# Altium footprint library KF2510-LI.PcbLib: 14 footprints
Each footprint in its own frame and in the unit in brackets; x right, y up, seen from the top. Pads: shape width x height; smd on the part's side, far side on the other; paste and mask are expansions set on the pad; w line width, h text height; cw(c..) or ccw(c..) is an arc to the next point about the centre after c.
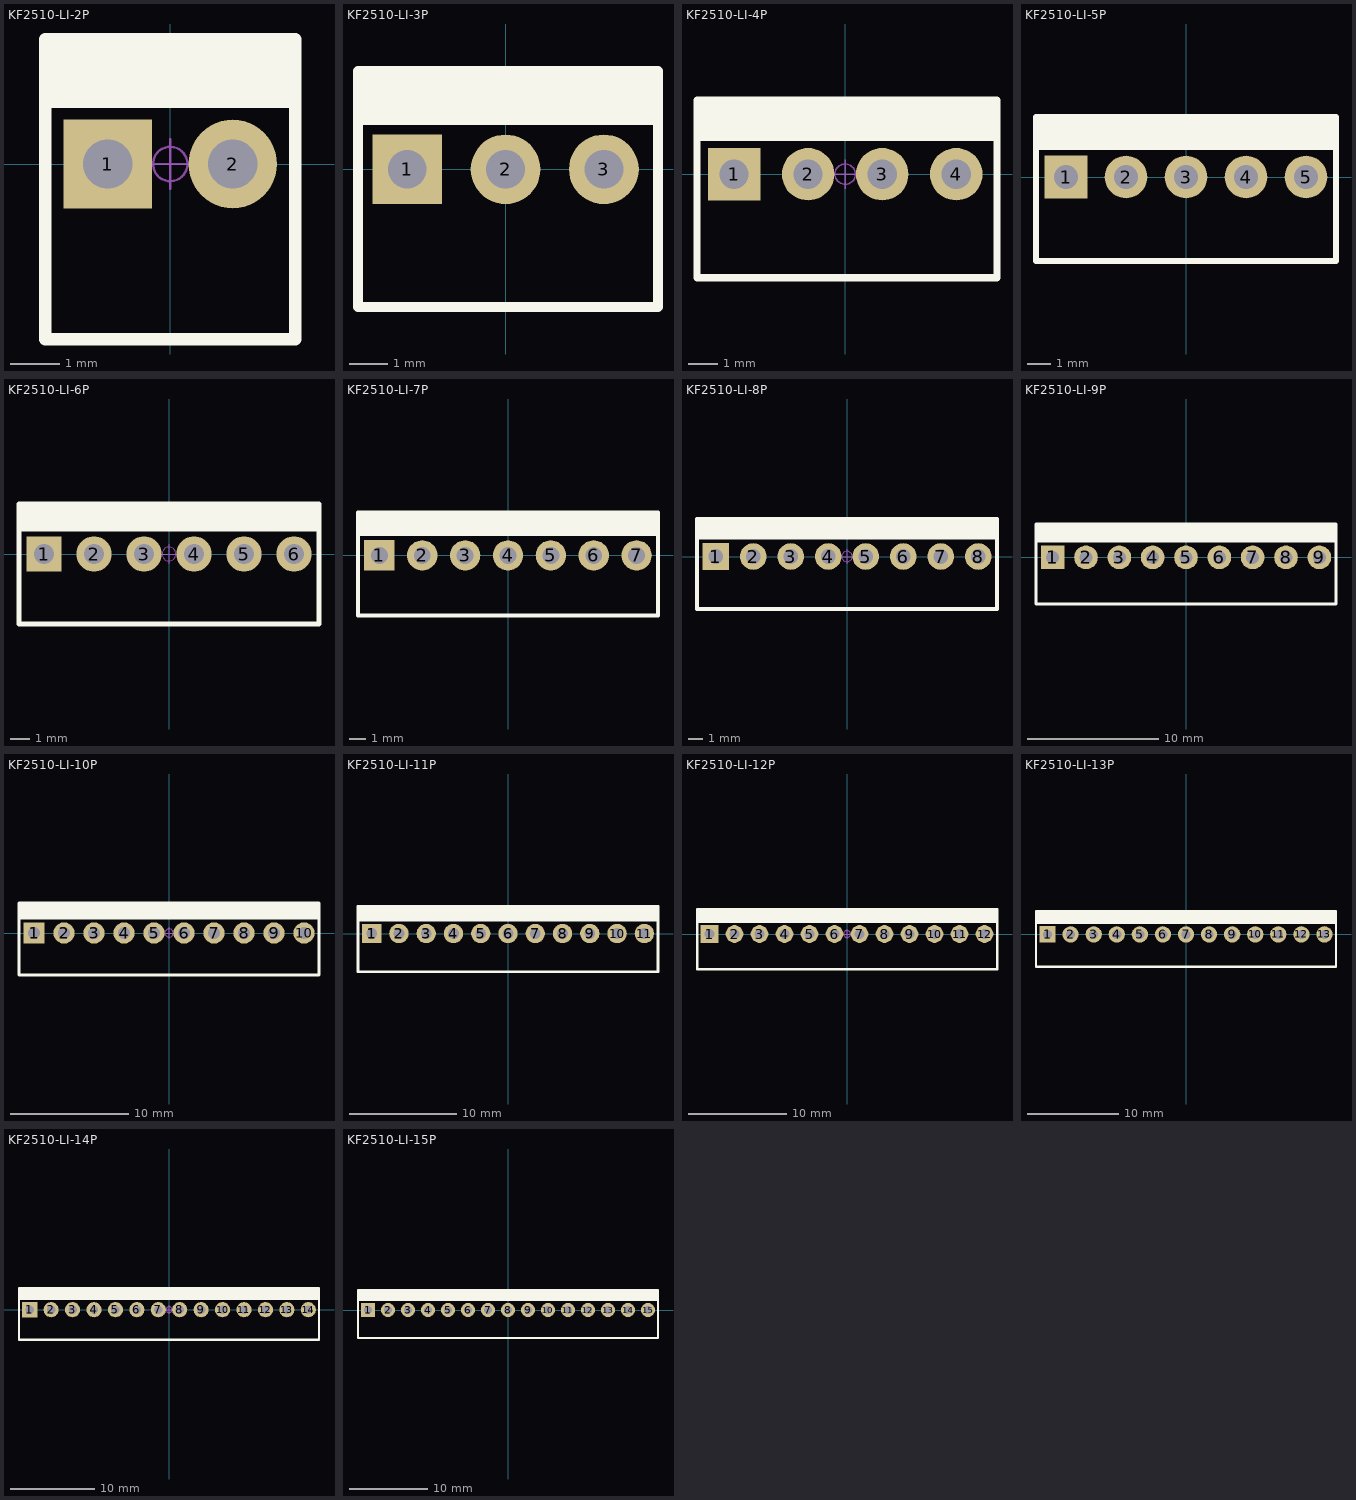
[diagram p0: the footprints below, top view; thin cyan lines are the x and y axes]

## KF2510-LI-2P [mm] "接插件/2A"
height 11
pads (2):
  rect 1.8x1.8 hole 1: 1(-1.27,0)
  round 1.8 hole 1: 2(1.27,0)
Top Overlay:
  rectangle: -2.591,1.27 2.489,2.54
  lines w0.254: -2.54,1.27 2.489,1.27 ; -2.54,-3.556 2.54,-3.556 2.54,2.54 -2.54,2.54 -2.54,-3.556
Mechanical 15:
  circle w0.05: c0,0 r0.35
  lines w0.05: -0.5,0 0.5,0 ; 0,-0.5 0,0.5
3D body "KF2510左.STEP": height 11.05, standoff -2.95, extent -2.54,-3.5 0,2.4
3D body "KF2510右.STEP": height 11.05, standoff -2.95, extent 0,-3.5 2.54,2.4

## KF2510-LI-3P [mm] "接插件/2A"
pads (3):
  rect 1.8x1.8 hole 1: 1(-2.54,0)
  round 1.8 hole 1: 2(0,0) 3(2.54,0)
Top Overlay:
  rectangle: -3.81,1.27 3.937,2.54
  lines w0.254: -3.81,1.27 3.937,1.27 ; -3.81,-3.556 3.937,-3.556 3.937,2.54 -3.81,2.54 -3.81,-3.556
Mechanical 15:
  circle w0.05: c0,0 r0.35
  lines w0.05: -0.5,0 0.5,0 ; 0,-0.5 0,0.5
3D body "KF2510右.STEP": height 11.05, standoff -2.95, extent 1.27,-3.5 3.81,2.4
3D body "KF2510左.STEP": height 11.05, standoff -2.95, extent -3.81,-3.5 -1.27,2.4
3D body "KF2510中.STEP": height 11.05, standoff -2.95, extent -1.27,-3.5 1.27,2.4

## KF2510-LI-4P [mm] "接插件/2A"
pads (4):
  rect 1.8x1.8 hole 1: 1(-3.81,0)
  round 1.8 hole 1: 2(-1.27,0) 3(1.27,0) 4(3.81,0)
Top Overlay:
  rectangle: -5.08,1.27 5.207,2.54
  lines w0.254: -5.08,1.27 5.207,1.27 ; -5.08,-3.556 -5.08,2.54 5.207,2.54 5.207,-3.556 -5.08,-3.556
Mechanical 15:
  circle w0.05: c0,0 r0.35
  lines w0.05: -0.5,0 0.5,0 ; 0,-0.5 0,0.5
3D body "KF2510中.STEP": height 11.05, standoff -2.95, extent -2.54,-3.5 0,2.4
3D body "KF2510中.STEP": height 11.05, standoff -2.95, extent 0,-3.5 2.54,2.4
3D body "KF2510左.STEP": height 11.05, standoff -2.95, extent -5.08,-3.5 -2.54,2.4
3D body "KF2510右.STEP": height 11.05, standoff -2.95, extent 2.54,-3.5 5.08,2.4

## KF2510-LI-5P [mm] "接插件/2A"
pads (5):
  rect 1.8x1.8 hole 1: 1(-5.08,0)
  round 1.8 hole 1: 2(-2.54,0) 3(0,0) 4(2.54,0) 5(5.08,0)
Top Overlay:
  rectangle: -6.35,1.27 6.35,2.538
  lines w0.254: -6.35,1.27 6.35,1.27 ; -6.35,-3.556 6.35,-3.556 6.35,2.54 -6.35,2.54 -6.35,-3.556
Mechanical 15:
  circle w0.05: c0,0 r0.35
  lines w0.05: -0.5,0 0.5,0 ; 0,-0.5 0,0.5
3D body "KF2510中.STEP": height 11.05, standoff -2.95, extent -3.81,-3.5 -1.27,2.4
3D body "KF2510中.STEP": height 11.05, standoff -2.95, extent -1.27,-3.5 1.27,2.4
3D body "KF2510中.STEP": height 11.05, standoff -2.95, extent 1.27,-3.5 3.81,2.4
3D body "KF2510左.STEP": height 11.05, standoff -2.95, extent -6.35,-3.5 -3.81,2.4
3D body "KF2510右.STEP": height 11.05, standoff -2.95, extent 3.81,-3.5 6.35,2.4

## KF2510-LI-6P [mm] "接插件/2A"
pads (6):
  rect 1.8x1.8 hole 1: 1(-6.35,0)
  round 1.8 hole 1: 2(-3.81,0) 3(-1.27,0) 4(1.27,0) 5(3.81,0) 6(6.35,0)
Top Overlay:
  rectangle: -7.62,1.27 7.62,2.54
  lines w0.254: -7.62,1.27 7.62,1.27 ; -7.62,-3.556 -7.62,2.54 7.62,2.54 7.62,-3.556 -7.62,-3.556
Mechanical 15:
  circle w0.05: c0,0 r0.35
  lines w0.05: -0.5,0 0.5,0 ; 0,-0.5 0,0.5
3D body "KF2510右.STEP": height 11.05, standoff -2.95, extent 5.08,-3.5 7.62,2.4
3D body "KF2510左.STEP": height 11.05, standoff -2.95, extent -7.62,-3.5 -5.08,2.4
3D body "KF2510中.STEP": height 11.05, standoff -2.95, extent 2.54,-3.5 5.08,2.4
3D body "KF2510中.STEP": height 11.05, standoff -2.95, extent 0,-3.5 2.54,2.4
3D body "KF2510中.STEP": height 11.05, standoff -2.95, extent -2.54,-3.5 0,2.4
3D body "KF2510中.STEP": height 11.05, standoff -2.95, extent -5.08,-3.5 -2.54,2.4

## KF2510-LI-7P [mm] "接插件/2A"
pads (7):
  rect 1.8x1.8 hole 1: 1(-7.62,0)
  round 1.8 hole 1: 2(-5.08,0) 3(-2.54,0) 4(0,0) 5(2.54,0) 6(5.08,0) 7(7.62,0)
Top Overlay:
  rectangle: -8.89,1.27 8.89,2.54
  lines w0.254: -8.89,1.27 8.89,1.27 ; -8.89,-3.556 -8.89,2.54 8.89,2.54 8.89,-3.556 -8.89,-3.556
Mechanical 15:
  circle w0.05: c0,0 r0.35
  lines w0.05: -0.5,0 0.5,0 ; 0,-0.5 0,0.5
3D body "KF2510中.STEP": height 11.05, standoff -2.95, extent -6.35,-3.5 -3.81,2.4
3D body "KF2510中.STEP": height 11.05, standoff -2.95, extent -3.81,-3.5 -1.27,2.4
3D body "KF2510中.STEP": height 11.05, standoff -2.95, extent -1.27,-3.5 1.27,2.4
3D body "KF2510中.STEP": height 11.05, standoff -2.95, extent 1.27,-3.5 3.81,2.4
3D body "KF2510中.STEP": height 11.05, standoff -2.95, extent 3.81,-3.5 6.35,2.4
3D body "KF2510左.STEP": height 11.05, standoff -2.95, extent -8.89,-3.5 -6.35,2.4
3D body "KF2510右.STEP": height 11.05, standoff -2.95, extent 6.35,-3.5 8.89,2.4

## KF2510-LI-8P [mm] "接插件/2A"
pads (8):
  rect 1.8x1.8 hole 1: 1(-8.89,0)
  round 1.8 hole 1: 2(-6.35,0) 3(-3.81,0) 4(-1.27,0) 5(1.27,0) 6(3.81,0) 7(6.35,0) 8(8.89,0)
Top Overlay:
  rectangle: -10.16,1.27 10.16,2.54
  lines w0.254: -10.16,1.27 10.16,1.27 ; -10.16,-3.556 -10.16,2.54 10.16,2.54 10.16,-3.556 -10.16,-3.556
Mechanical 15:
  circle w0.05: c0,0 r0.35
  lines w0.05: -0.5,0 0.5,0 ; 0,-0.5 0,0.5
3D body "KF2510左.STEP": height 11.05, standoff -2.95, extent -10.16,-3.5 -7.62,2.4
3D body "KF2510右.STEP": height 11.05, standoff -2.95, extent 7.62,-3.5 10.16,2.4
3D body "KF2510中.STEP": height 11.05, standoff -2.95, extent -7.62,-3.5 -5.08,2.4
3D body "KF2510中.STEP": height 11.05, standoff -2.95, extent -5.08,-3.5 -2.54,2.4
3D body "KF2510中.STEP": height 11.05, standoff -2.95, extent -2.54,-3.5 0,2.4
3D body "KF2510中.STEP": height 11.05, standoff -2.95, extent 0,-3.5 2.54,2.4
3D body "KF2510中.STEP": height 11.05, standoff -2.95, extent 2.54,-3.5 5.08,2.4
3D body "KF2510中.STEP": height 11.05, standoff -2.95, extent 5.08,-3.5 7.62,2.4

## KF2510-LI-9P [mm] "接插件/2A"
pads (9):
  rect 1.8x1.8 hole 1: 1(-10.16,0)
  round 1.8 hole 1: 2(-7.62,0) 3(-5.08,0) 4(-2.54,0) 5(0,0) 6(2.54,0) 7(5.08,0) 8(7.62,0) 9(10.16,0)
Top Overlay:
  rectangle: -11.43,1.27 11.43,2.54
  lines w0.254: -11.43,1.27 11.43,1.27 ; -11.43,-3.556 11.43,-3.556 11.43,2.54 -11.43,2.54 -11.43,-3.556
Mechanical 15:
  circle w0.05: c0,0 r0.35
  lines w0.05: -0.5,0 0.5,0 ; 0,-0.5 0,0.5
3D body "KF2510中.STEP": height 11.05, standoff -2.95, extent 6.35,-3.5 8.89,2.4
3D body "KF2510中.STEP": height 11.05, standoff -2.95, extent 3.81,-3.5 6.35,2.4
3D body "KF2510中.STEP": height 11.05, standoff -2.95, extent 1.27,-3.5 3.81,2.4
3D body "KF2510中.STEP": height 11.05, standoff -2.95, extent -1.27,-3.5 1.27,2.4
3D body "KF2510中.STEP": height 11.05, standoff -2.95, extent -3.81,-3.5 -1.27,2.4
3D body "KF2510中.STEP": height 11.05, standoff -2.95, extent -6.35,-3.5 -3.81,2.4
3D body "KF2510中.STEP": height 11.05, standoff -2.95, extent -8.89,-3.5 -6.35,2.4
3D body "KF2510右.STEP": height 11.05, standoff -2.95, extent 8.89,-3.5 11.43,2.4
3D body "KF2510左.STEP": height 11.05, standoff -2.95, extent -11.43,-3.5 -8.89,2.4

## KF2510-LI-10P [mm] "接插件/2A"
pads (10):
  rect 1.8x1.8 hole 1: 1(-11.43,0)
  round 1.8 hole 1: 2(-8.89,0) 3(-6.35,0) 4(-3.81,0) 5(-1.27,0) 6(1.27,0) 7(3.81,0) 8(6.35,0) 9(8.89,0) 10(11.43,0)
Top Overlay:
  rectangle: -12.7,1.27 12.7,2.54
  lines w0.254: -12.7,1.27 12.7,1.27 ; -12.7,-3.556 -12.7,2.54 12.7,2.54 12.7,-3.556 -12.7,-3.556
Mechanical 15:
  circle w0.05: c0,0 r0.35
  lines w0.05: -0.5,0 0.5,0 ; 0,-0.5 0,0.5
3D body "KF2510左.STEP": height 11.05, standoff -2.95, extent -12.7,-3.5 -10.16,2.4
3D body "KF2510右.STEP": height 11.05, standoff -2.95, extent 10.16,-3.5 12.7,2.4
3D body "KF2510中.STEP": height 11.05, standoff -2.95, extent -10.16,-3.5 -7.62,2.4
3D body "KF2510中.STEP": height 11.05, standoff -2.95, extent -7.62,-3.5 -5.08,2.4
3D body "KF2510中.STEP": height 11.05, standoff -2.95, extent -5.08,-3.5 -2.54,2.4
3D body "KF2510中.STEP": height 11.05, standoff -2.95, extent -2.54,-3.5 0,2.4
3D body "KF2510中.STEP": height 11.05, standoff -2.95, extent 0,-3.5 2.54,2.4
3D body "KF2510中.STEP": height 11.05, standoff -2.95, extent 2.54,-3.5 5.08,2.4
3D body "KF2510中.STEP": height 11.05, standoff -2.95, extent 5.08,-3.5 7.62,2.4
3D body "KF2510中.STEP": height 11.05, standoff -2.95, extent 7.62,-3.5 10.16,2.4

## KF2510-LI-11P [mm] "接插件/2A"
pads (11):
  rect 1.8x1.8 hole 1: 1(-12.7,0)
  round 1.8 hole 1: 2(-10.16,0) 3(-7.62,0) 4(-5.08,0) 5(-2.54,0) 6(0,0) 7(2.54,0) 8(5.08,0) 9(7.62,0) 10(10.16,0) 11(12.7,0)
Top Overlay:
  rectangle: -13.97,1.27 13.97,2.54
  lines w0.254: -13.97,1.27 13.97,1.27 ; -13.97,-3.556 13.97,-3.556 13.97,2.54 -13.97,2.54 -13.97,-3.556
Mechanical 15:
  circle w0.05: c0,0 r0.35
  lines w0.05: -0.5,0 0.5,0 ; 0,-0.5 0,0.5
3D body "KF2510中.STEP": height 11.05, standoff -2.95, extent 8.89,-3.5 11.43,2.4
3D body "KF2510中.STEP": height 11.05, standoff -2.95, extent 6.35,-3.5 8.89,2.4
3D body "KF2510中.STEP": height 11.05, standoff -2.95, extent 3.81,-3.5 6.35,2.4
3D body "KF2510中.STEP": height 11.05, standoff -2.95, extent 1.27,-3.5 3.81,2.4
3D body "KF2510中.STEP": height 11.05, standoff -2.95, extent -1.27,-3.5 1.27,2.4
3D body "KF2510中.STEP": height 11.05, standoff -2.95, extent -3.81,-3.5 -1.27,2.4
3D body "KF2510中.STEP": height 11.05, standoff -2.95, extent -6.35,-3.5 -3.81,2.4
3D body "KF2510中.STEP": height 11.05, standoff -2.95, extent -8.89,-3.5 -6.35,2.4
3D body "KF2510中.STEP": height 11.05, standoff -2.95, extent -11.43,-3.5 -8.89,2.4
3D body "KF2510右.STEP": height 11.05, standoff -2.95, extent 11.43,-3.5 13.97,2.4
3D body "KF2510左.STEP": height 11.05, standoff -2.95, extent -13.97,-3.5 -11.43,2.4

## KF2510-LI-12P [mm] "接插件/2A"
pads (12):
  rect 1.8x1.8 hole 1: 1(-13.97,0)
  round 1.8 hole 1: 2(-11.43,0) 3(-8.89,0) 4(-6.35,0) 5(-3.81,0) 6(-1.27,0) 7(1.27,0) 8(3.81,0) 9(6.35,0) 10(8.89,0) 11(11.43,0) 12(13.97,0)
Top Overlay:
  rectangle: -15.24,1.27 15.24,2.54
  lines w0.254: -15.24,1.27 15.24,1.27 ; -15.24,-3.556 15.24,-3.556 15.24,2.54 -15.24,2.54 -15.24,-3.556
Mechanical 15:
  circle w0.05: c0,0 r0.35
  lines w0.05: -0.5,0 0.5,0 ; 0,-0.5 0,0.5
3D body "KF2510中.STEP": height 11.05, standoff -2.95, extent 10.16,-3.5 12.7,2.4
3D body "KF2510中.STEP": height 11.05, standoff -2.95, extent 7.62,-3.5 10.16,2.4
3D body "KF2510中.STEP": height 11.05, standoff -2.95, extent 5.08,-3.5 7.62,2.4
3D body "KF2510中.STEP": height 11.05, standoff -2.95, extent 2.54,-3.5 5.08,2.4
3D body "KF2510中.STEP": height 11.05, standoff -2.95, extent 0,-3.5 2.54,2.4
3D body "KF2510中.STEP": height 11.05, standoff -2.95, extent -2.54,-3.5 0,2.4
3D body "KF2510中.STEP": height 11.05, standoff -2.95, extent -5.08,-3.5 -2.54,2.4
3D body "KF2510中.STEP": height 11.05, standoff -2.95, extent -7.62,-3.5 -5.08,2.4
3D body "KF2510中.STEP": height 11.05, standoff -2.95, extent -10.16,-3.5 -7.62,2.4
3D body "KF2510中.STEP": height 11.05, standoff -2.95, extent -12.7,-3.5 -10.16,2.4
3D body "KF2510右.STEP": height 11.05, standoff -2.95, extent 12.7,-3.5 15.24,2.4
3D body "KF2510左.STEP": height 11.05, standoff -2.95, extent -15.24,-3.5 -12.7,2.4

## KF2510-LI-13P [mm] "接插件/2A"
pads (13):
  rect 1.8x1.8 hole 1: 1(-15.24,0)
  round 1.8 hole 1: 2(-12.7,0) 3(-10.16,0) 4(-7.62,0) 5(-5.08,0) 6(-2.54,0) 7(0,0) 8(2.54,0) 9(5.08,0) 10(7.62,0) 11(10.16,0) 12(12.7,0) 13(15.24,0)
Top Overlay:
  rectangle: -16.51,1.27 16.51,2.54
  lines w0.254: -16.51,1.27 16.51,1.27 ; -16.51,-3.556 16.51,-3.556 16.51,2.54 -16.51,2.54 -16.51,-3.556
Mechanical 15:
  circle w0.05: c0,0 r0.35
  lines w0.05: -0.5,0 0.5,0 ; 0,-0.5 0,0.5
3D body "KF2510中.STEP": height 11.05, standoff -2.95, extent 11.43,-3.5 13.97,2.4
3D body "KF2510中.STEP": height 11.05, standoff -2.95, extent 8.89,-3.5 11.43,2.4
3D body "KF2510中.STEP": height 11.05, standoff -2.95, extent 6.35,-3.5 8.89,2.4
3D body "KF2510中.STEP": height 11.05, standoff -2.95, extent 3.81,-3.5 6.35,2.4
3D body "KF2510中.STEP": height 11.05, standoff -2.95, extent 1.27,-3.5 3.81,2.4
3D body "KF2510中.STEP": height 11.05, standoff -2.95, extent -1.27,-3.5 1.27,2.4
3D body "KF2510中.STEP": height 11.05, standoff -2.95, extent -3.81,-3.5 -1.27,2.4
3D body "KF2510中.STEP": height 11.05, standoff -2.95, extent -6.35,-3.5 -3.81,2.4
3D body "KF2510中.STEP": height 11.05, standoff -2.95, extent -8.89,-3.5 -6.35,2.4
3D body "KF2510中.STEP": height 11.05, standoff -2.95, extent -11.43,-3.5 -8.89,2.4
3D body "KF2510中.STEP": height 11.05, standoff -2.95, extent -13.97,-3.5 -11.43,2.4
3D body "KF2510右.STEP": height 11.05, standoff -2.95, extent 13.97,-3.5 16.51,2.4
3D body "KF2510左.STEP": height 11.05, standoff -2.95, extent -16.51,-3.5 -13.97,2.4

## KF2510-LI-14P [mm] "接插件/2A"
pads (14):
  rect 1.8x1.8 hole 1: 1(-16.51,0)
  round 1.8 hole 1: 2(-13.97,0) 3(-11.43,0) 4(-8.89,0) 5(-6.35,0) 6(-3.81,0) 7(-1.27,0) 8(1.27,0) 9(3.81,0) 10(6.35,0) 11(8.89,0) 12(11.43,0) 13(13.97,0) 14(16.51,0)
Top Overlay:
  rectangle: -17.78,1.27 17.78,2.54
  lines w0.254: -17.78,1.27 17.78,1.27 ; -17.78,-3.556 17.78,-3.556 17.78,2.54 -17.78,2.54 -17.78,-3.556
Mechanical 15:
  circle w0.05: c0,0 r0.35
  lines w0.05: -0.5,0 0.5,0 ; 0,-0.5 0,0.5
3D body "KF2510中.STEP": height 11.05, standoff -2.95, extent 12.7,-3.5 15.24,2.4
3D body "KF2510中.STEP": height 11.05, standoff -2.95, extent 10.16,-3.5 12.7,2.4
3D body "KF2510中.STEP": height 11.05, standoff -2.95, extent 7.62,-3.5 10.16,2.4
3D body "KF2510中.STEP": height 11.05, standoff -2.95, extent 5.08,-3.5 7.62,2.4
3D body "KF2510中.STEP": height 11.05, standoff -2.95, extent 2.54,-3.5 5.08,2.4
3D body "KF2510中.STEP": height 11.05, standoff -2.95, extent 0,-3.5 2.54,2.4
3D body "KF2510中.STEP": height 11.05, standoff -2.95, extent -2.54,-3.5 0,2.4
3D body "KF2510中.STEP": height 11.05, standoff -2.95, extent -5.08,-3.5 -2.54,2.4
3D body "KF2510中.STEP": height 11.05, standoff -2.95, extent -7.62,-3.5 -5.08,2.4
3D body "KF2510中.STEP": height 11.05, standoff -2.95, extent -10.16,-3.5 -7.62,2.4
3D body "KF2510中.STEP": height 11.05, standoff -2.95, extent -12.7,-3.5 -10.16,2.4
3D body "KF2510中.STEP": height 11.05, standoff -2.95, extent -15.24,-3.5 -12.7,2.4
3D body "KF2510右.STEP": height 11.05, standoff -2.95, extent 15.24,-3.5 17.78,2.4
3D body "KF2510左.STEP": height 11.05, standoff -2.95, extent -17.78,-3.5 -15.24,2.4

## KF2510-LI-15P [mm] "接插件/2A"
pads (15):
  rect 1.8x1.8 hole 1: 1(-17.78,0)
  round 1.8 hole 1: 2(-15.24,0) 3(-12.7,0) 4(-10.16,0) 5(-7.62,0) 6(-5.08,0) 7(-2.54,0) 8(0,0) 9(2.54,0) 10(5.08,0) 11(7.62,0) 12(10.16,0) 13(12.7,0) 14(15.24,0) 15(17.78,0)
Top Overlay:
  rectangle: -19.05,1.27 19.05,2.54
  lines w0.254: -19.05,1.27 19.05,1.27 ; -19.05,-3.556 19.05,-3.556 19.05,2.54 -19.05,2.54 -19.05,-3.556
Mechanical 15:
  circle w0.05: c0,0 r0.35
  lines w0.05: -0.5,0 0.5,0 ; 0,-0.5 0,0.5
3D body "KF2510中.STEP": height 11.05, standoff -2.95, extent 13.97,-3.5 16.51,2.4
3D body "KF2510中.STEP": height 11.05, standoff -2.95, extent 11.43,-3.5 13.97,2.4
3D body "KF2510中.STEP": height 11.05, standoff -2.95, extent 8.89,-3.5 11.43,2.4
3D body "KF2510中.STEP": height 11.05, standoff -2.95, extent 6.35,-3.5 8.89,2.4
3D body "KF2510中.STEP": height 11.05, standoff -2.95, extent 3.81,-3.5 6.35,2.4
3D body "KF2510中.STEP": height 11.05, standoff -2.95, extent 1.27,-3.5 3.81,2.4
3D body "KF2510中.STEP": height 11.05, standoff -2.95, extent -1.27,-3.5 1.27,2.4
3D body "KF2510中.STEP": height 11.05, standoff -2.95, extent -3.81,-3.5 -1.27,2.4
3D body "KF2510中.STEP": height 11.05, standoff -2.95, extent -6.35,-3.5 -3.81,2.4
3D body "KF2510中.STEP": height 11.05, standoff -2.95, extent -8.89,-3.5 -6.35,2.4
3D body "KF2510中.STEP": height 11.05, standoff -2.95, extent -11.43,-3.5 -8.89,2.4
3D body "KF2510中.STEP": height 11.05, standoff -2.95, extent -13.97,-3.5 -11.43,2.4
3D body "KF2510中.STEP": height 11.05, standoff -2.95, extent -16.51,-3.5 -13.97,2.4
3D body "KF2510右.STEP": height 11.05, standoff -2.95, extent 16.51,-3.5 19.05,2.4
3D body "KF2510左.STEP": height 11.05, standoff -2.95, extent -19.05,-3.5 -16.51,2.4